# EAGLE library part 4455-A06 (library con-molex-kk)
RECEPTACLE
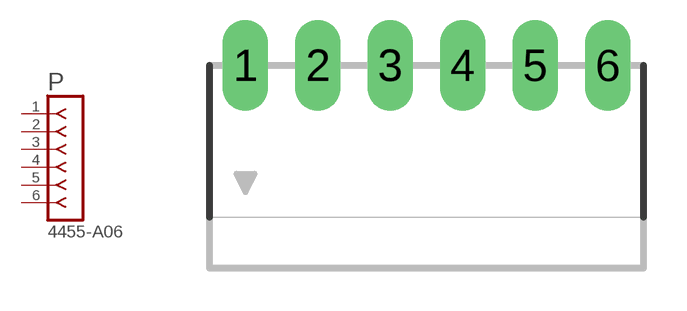
[diagram p118: symbol with the pads of 4455-A06; footprint 4455-A06]

Designator prefix P

## 4455-A06  [4455-A06]
1  1  pas
2  2  pas
3  3  pas
4  4  pas
5  5  pas
6  6  pas

## Footprint 4455-A06 (pad centres in mm)
RECEPTACAL Right Angle, 0.1" pitch
drill 1.067 long: 1 -6.35,0; 2 -3.81,0; 3 -1.27,0; 4 1.27,0; 5 3.81,0; 6 6.35,0